# Altium schematic symbol library DIY_DAP_PCB_Library.SchLib: 28 symbols
Pins are listed as number, name and electrical type; pins without a type are passive.

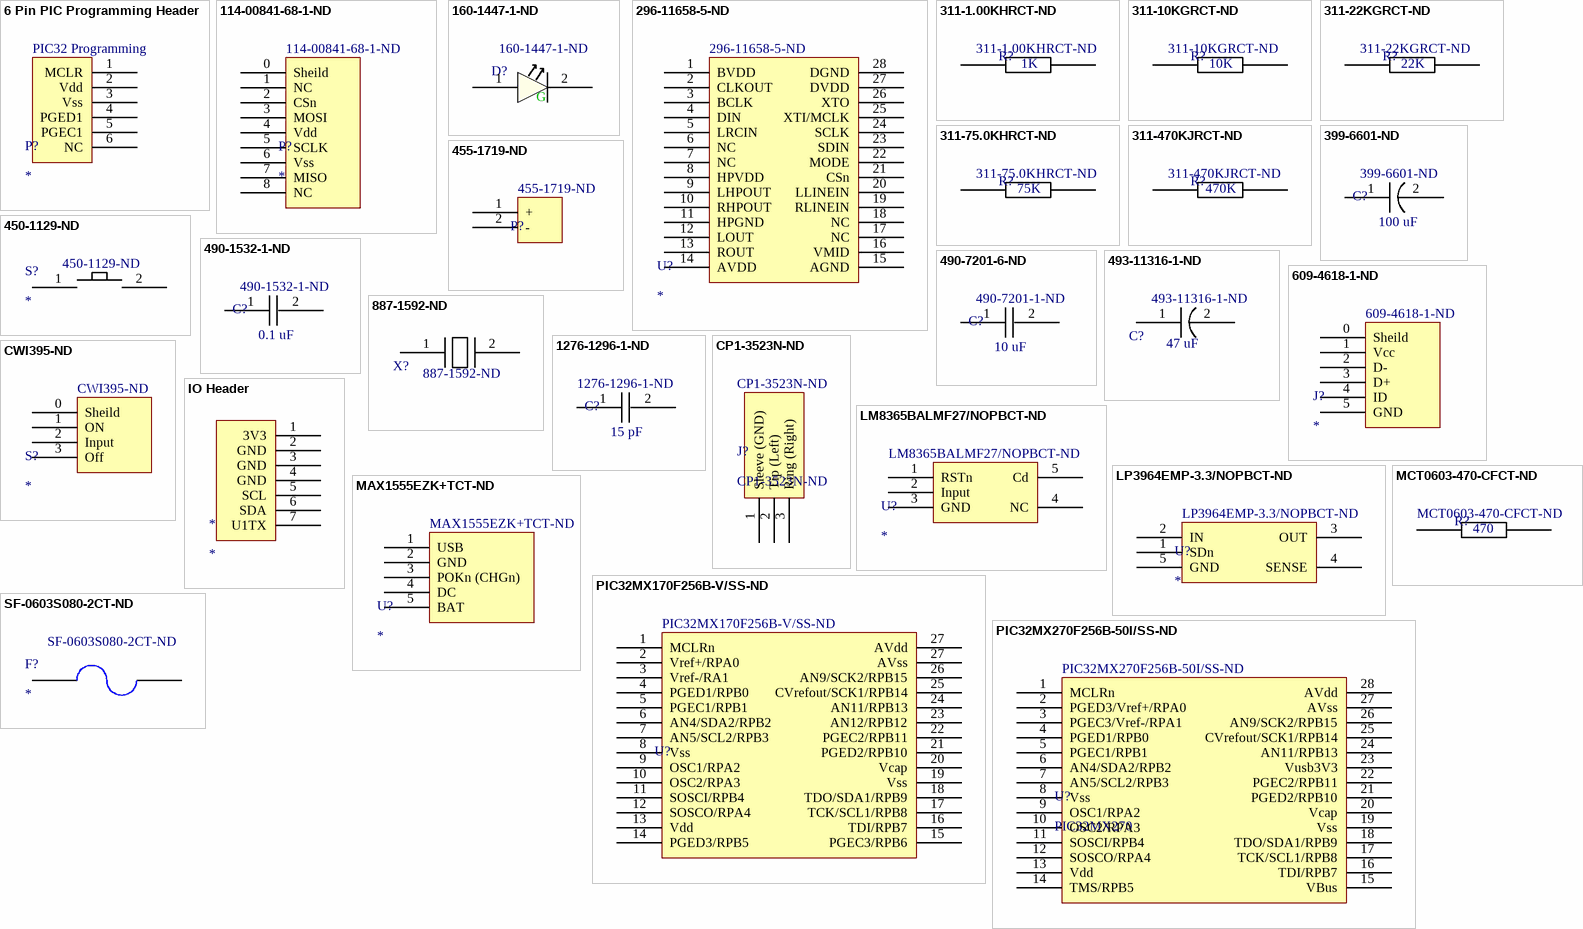
[diagram p0: symbols 6 Pin PIC Programming Header to SF-0603S080-2CT-ND]

## 6 Pin PIC Programming Header
designator P?
6 Pin PIC Programming Header
footprint PIC32 Programming Header
pins: 1 MCLR, 2 Vdd, 3 Vss, 4 PGED1, 5 PGEC1, 6 NC
text: PIC32 Programming

## 114-00841-68-1-ND
designator P?  Supplier Part Number 1: 114-00841-68-1-ND
MicroSD Card Slot; Supplier 1: Digi-Key
footprint 114-00841-68-1-ND
pins: 0 Sheild, 1 NC, 2 CSn, 3 MOSI, 4 Vdd, 5 SCLK, 6 Vss, 7 MISO, 8 NC

## 160-1447-1-ND
designator D?  Supplier Part Number 1: 160-1447-1-ND
Green LED (0603); Supplier 1: Digi-Key
footprint 0603
pins: 1 +, 2 -
text: G

## 296-11658-5-ND
designator U?  Supplier Part Number 1: 296-11658-5-ND
TLV320DAC23PW; Supplier 1: Digi-Key
footprint 296-11658-5-ND
pins: 1 BVDD, 2 CLKOUT, 3 BCLK, 4 DIN, 5 LRCIN, 6 NC, 7 NC, 8 HPVDD, 9 LHPOUT, 10 RHPOUT, 11 HPGND, 12 LOUT, 13 ROUT, 14 AVDD, 15 AGND, 16 VMID, 17 NC, 18 NC, 19 RLINEIN, 20 LLINEIN, 21 CSn, 22 MODE, 23 SDIN, 24 SCLK, 25 XTI/MCLK, 26 XTO, 27 DVDD, 28 DGND

## 311-1.00KHRCT-ND
designator R?  Supplier Part Number 1: 311-1.00KHRCT-ND
1k Ohm Resistor; Supplier 1: Digi-Key
footprint 0603
pins: 1, 2
text: 1K

## 311-10KGRCT-ND
designator R?  Supplier Part Number 1: 311-10KGRCT-ND
10k Ohm Resistor; Supplier 1: Digi-Key
footprint 0603
pins: 1, 2
text: 10K

## 311-22KGRCT-ND
designator R?  Supplier Part Number 1: 311-22KGRCT-ND
22k Ohm Resistor; Supplier 1: Digi-Key
footprint 0603
pins: 1, 2
text: 22K

## 311-75.0KHRCT-ND
designator R?  Supplier Part Number 1: 311-75.0KHRCT-ND
75k Ohm Resistor; Supplier 1: Digi-Key
footprint 0603
pins: 1, 2
text: 75K

## 311-470KJRCT-ND
designator R?  Supplier Part Number 1: 311-470KJRCT-ND
470k Ohm Resistor; Supplier 1: Digi-Key
footprint 0603
pins: 1, 2
text: 470K

## 399-6601-ND
designator C?  Supplier Part Number 1: 399-6601-ND
100 uF - 16V - Electrolytic Capacitor; Supplier 1: Digi-Key
footprint 399-6601-ND (100 uF Capacitor)
pins: 1, 2
text: 100 uF

## 450-1129-ND
designator S?  Supplier Part Number 1: 450-1129-ND
Momentary Push button; Supplier 1: Digi-Key
footprint 450-1129-ND
pins: 1, 2

## 455-1719-ND
designator P?  Supplier Part Number 1: 455-1719-ND
JST-PH Battery Connector; Supplier 1: Digi-Key
footprint 455-1719-ND
pins: 1 +, 2 -

## 490-1532-1-ND
designator C?  Supplier Part Number 1: 490-1532-1-ND
0603 0.1 uF - 16V - Ceramic Capacitor; Supplier 1: Digi-Key
footprint 0603
pins: 1, 2
text: 0.1 uF

## 490-7201-6-ND
designator C?  Supplier Part Number 1: 490-7201-1-ND
0603 10 uF - 16V - Ceramic Capacitor; Supplier 1: Digi-Key
footprint 0603
pins: 1, 2
text: 10 uF

## 493-11316-1-ND
designator C?  Supplier Part Number 1: 493-11316-1-ND
47 uF - 10V - Electrolytic Capacitor; Supplier 1: Digi-Key
footprint 493-11316-1-ND (47 uF Capacitor)
pins: 1, 2
text: 47 uF

## 609-4618-1-ND
designator J?  Supplier Part Number 1: 609-4618-1-ND
USB Micro-B; Supplier 1: Digi-Key
footprint 609-4618-1-ND
pins: 0 Sheild, 1 Vcc, 2 D-, 3 D+, 4 ID, 5 GND

## 887-1592-ND
designator X?  Supplier Part Number 1: 887-1592-ND
16.9344 Mhz Crystal; Supplier 1: Digi-Key
footprint 887-1592-ND
pins: 1, 2

## 1276-1296-1-ND
designator C?  Supplier Part Number 1: 1276-1296-1-ND
0603 15 pF - 50V - Ceramic Capacitor; Supplier 1: Digi-Key
footprint 0603
pins: 1, 2
text: 15 pF

## CP1-3523N-ND
designator J?
3.5mm Audio Jack; Supplier 1: Digi-Key; Supplier Part Number 1: CP1-3523N-ND
footprint CP1-3523N-ND
pins: 1 Sleeve (GND), 2 Tip (Left), 3 Ring (Right)

## CWI395-ND
designator S?  Supplier Part Number 1: CWI395-ND
Supplier 1: Digi-Key
footprint CWI395-ND
pins: 0 Sheild, 1 ON, 2 Input, 3 Off

## IO Header
designator *
footprint IO Header
pins: 1 3V3, 2 GND, 3 GND, 4 GND, 5 SCL, 6 SDA, 7 U1TX

## LM8365BALMF27/NOPBCT-ND
designator U?  Supplier Part Number 1: LM8365BALMF27/NOPBCT-ND
Undervoltage Reset Controller; Supplier 1: Digi-Key
footprint LM8365BALMF27/NOPBCT-ND
pins: 1 RSTn, 2 Input , 3 GND, 4 NC, 5 Cd

## LP3964EMP-3.3/NOPBCT-ND
designator U?  Supplier Part Number 1: LP3964EMP-3.3/NOPBCT-ND
3.3V LDO; Supplier 1: Digi-Key
footprint LP3964EMP-3.3/NOPBCT-ND
pins: 1 SDn, 2 IN, 3 OUT, 4 SENSE, 5 GND

## MAX1555EZK+TCT-ND
designator U?  Supplier Part Number 1: MAX1555EZK+TCT-ND
LiPo Charger; Supplier 1: Digi-Key
footprint MAX1555EZK+TCT-ND
pins: 1 USB, 2 GND, 3 POKn (CHGn), 4 DC, 5 BAT

## MCT0603-470-CFCT-ND
designator R?  Supplier Part Number 1: MCT0603-470-CFCT-ND
470 Ohm Resistor; Supplier 1: Digi-Key
footprint 0603
pins: 1, 2
text: 470

## PIC32MX170F256B-V/SS-ND
designator U?  Supplier Part Number 1: PIC32MX170F256B-V/SS-ND
PIC32MX170F256B; Supplier 1: Digi-Key
pins: 1 MCLRn, 2 Vref+/RPA0, 3 Vref-/RA1, 4 PGED1/RPB0, 5 PGEC1/RPB1, 6 AN4/SDA2/RPB2, 7 AN5/SCL2/RPB3, 8 Vss, 9 OSC1/RPA2, 10 OSC2/RPA3, 11 SOSCI/RPB4, 12 SOSCO/RPA4, 13 Vdd, 14 PGED3/RPB5, 15 PGEC3/RPB6, 16 TDI/RPB7, 17 TCK/SCL1/RPB8, 18 TDO/SDA1/RPB9, 19 Vss, 20 Vcap, 21 PGED2/RPB10, 22 PGEC2/RPB11, 23 AN12/RPB12, 24 AN11/RPB13, 25 CVrefout/SCK1/RPB14, 26 AN9/SCK2/RPB15, 27 AVss, 27 AVdd

## PIC32MX270F256B-50I/SS-ND
designator U?, comment PIC32MX270  Supplier Part Number 1: PIC32MX270F256B-50I/SS-ND
PIC32MX270F256B; Supplier 1: Digi-Key
footprint PIC32MX270F256B-50I/SS-ND
pins: 1 MCLRn, 2 PGED3/Vref+/RPA0, 3 PGEC3/Vref-/RPA1, 4 PGED1/RPB0, 5 PGEC1/RPB1, 6 AN4/SDA2/RPB2, 7 AN5/SCL2/RPB3, 8 Vss, 9 OSC1/RPA2, 10 OSC2/RPA3, 11 SOSCI/RPB4, 12 SOSCO/RPA4, 13 Vdd, 14 TMS/RPB5, 15 VBus, 16 TDI/RPB7, 17 TCK/SCL1/RPB8, 18 TDO/SDA1/RPB9, 19 Vss, 20 Vcap, 21 PGED2/RPB10, 22 PGEC2/RPB11, 23 Vusb3V3, 24 AN11/RPB13, 25 CVrefout/SCK1/RPB14, 26 AN9/SCK2/RPB15, 27 AVss, 28 AVdd

## SF-0603S080-2CT-ND
designator F?  Supplier Part Number 1: SF-0603S080-2CT-ND
800 mA 32VDC Fuse; Supplier 1: Digi-Key
footprint 0603
pins: 1, 2